# Altium schematic symbol library Schlib_jp.SchLib: 203 symbols (part 5 of 6)
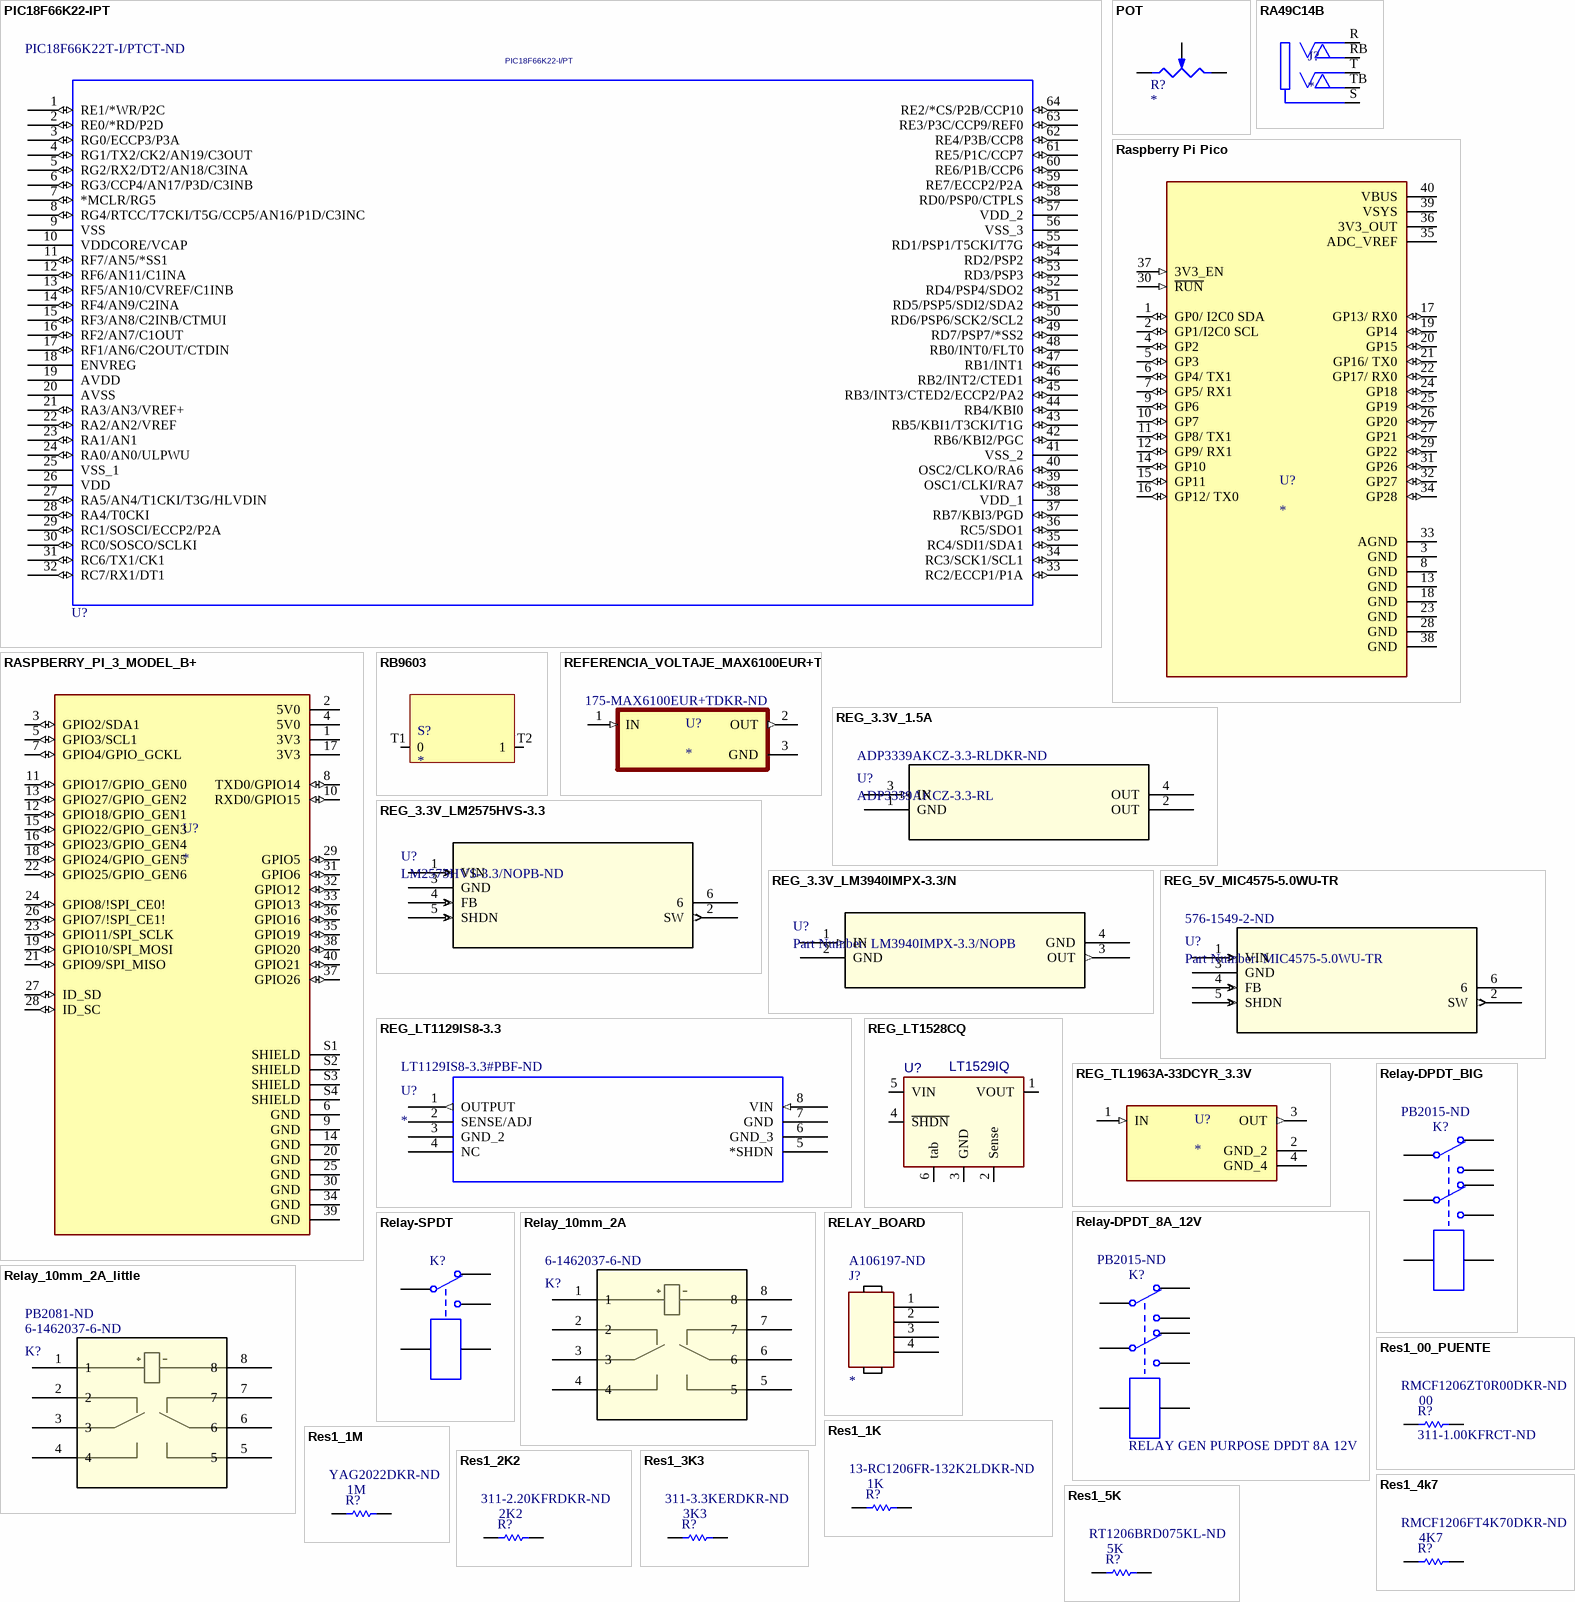
[diagram p12: symbols PIC18F66K22-IPT to Res1_5K]

## REG_3.3V_1.5A
designator U?, comment ADP3339AKCZ-3.3-RL  Supplier Part Number 1: ADP3339AKCZ-3.3-RLDKR-ND
IC REG LINEAR 3.3V 1.5A SOT223-3; Manufacturer_Part_Number: LM3940IMPX-3.3/NOPB; Vendor: Texas Instruments; Built_By: EMA_UL_Team; Copyright: Copyright (C) 2018 Accelerated Designs. All rights reserved; RefDes: RefDes; Type: DEV; Value: Value; Supplier 1: Digi-Key
footprint MP04A-M
pins: 1 GND, 2 OUT (power), 3 IN (in), 4 OUT (power)

## REG_3.3V_LM2575HVS-3.3
designator U?, comment LM2575HVS-3.3/NOPB-ND
Buck Switching Regulator IC Positive Fixed 3.3V 1 Output 1A TO-263-6, D²Pak (5 Leads + Tab), TO-263BA; Manufacturer_Part_Number: MIC4575-5.0WU-TR; Manufacturer: Microchip Micrel; Vendor: Microchip; Built_By: EMA_Jessica; Output Voltage: 5V; Number of Outputs: 1; Output Current: 1.7A; Efficiency: 77%; Min Input Voltage: 4V; Max Input Voltage: 24V; Switching Frequency: 200kHz; Synchronous Rectifier: No; Topology: Buck-Boost; Copyright: Copyright (C) 2018 Accelerated Designs. All rights reserved; RefDes: RefDes; Type: DEV; Value: Value; Manufacturer Part Number: MIC4575-5.0WU-TR; Mount: Surface Mount; Case/Package: TO-263-5; Min Operating Temperature: -40°C; Max Operating Temperature: 85°C; Max Output Current: 1A; Packaging: Tape and Reel; Package Quantity: 750; Min Output Voltage: 5V; Output Type: Fixed; Output Configuration: Positive; Lead Free: Lead Free; ComponentLink1URL: http://www.micrel.com/_PDF/mic4575.pdf?src-supplier=Future+Electronics; ComponentLink1Description: http://www.micrel.com/_PDF/mic4575.pdf?src-supplier=Future+Electronics; ComponentLink2URL: http://www.micrel.com/_PDF/mic4575.pdf?src-supplier=Digi-Key; ComponentLink2Description: http://www.micrel.com/_PDF/mic4575.pdf?src-supplier=Digi-Key; Digi_Key_Part_Number: LM2575HVS-3.3/NOPB-ND; Link: https://www.digikey.com/en/products/detail/texas-instruments/LM2575HVS-3-3-NOPB/363637; ComponentLink3Description: IC REG MULTI CONFG 3.3V D2PAK-5; ComponentLink3URL: https://www.digikey.com/es/products/detail/onsemi/LM2576D2TR4-3-3G/2120632
footprint TO-263-5-M
pins: 1 VIN (in), 2 SW (out), 3 GND (power), 4 FB (in), 5 SHDN (in), 6

## REG_3.3V_LM3940IMPX-3.3/N
designator U?, comment Part Number: LM3940IMPX-3.3/NOPB
IC REG LINEAR 3.3V 1A SOT223-4; Vendor: Texas Instruments; Built_By: EMA_UL_Team; Manufacturer_Part_Number: LM3940IMPX-3.3/NOPB; Copyright: Copyright (C) 2018 Accelerated Designs. All rights reserved; RefDes: RefDes; Type: DEV; Value: Value; ComponentLink1Description: LM3940; ComponentLink1URL: https://www.digikey.com/es/products/detail/texas-instruments/LM3940IMPX-3-3/3697375
footprint MP04A
footprint MP04A-M
pins: 1 IN (in), 2 GND, 3 OUT (out), 4 GND

## REG_5V_MIC4575-5.0WU-TR
designator U?, comment Part Number: MIC4575-5.0WU-TR  Supplier Part Number 1: 576-1549-2-ND
Regulador 5V; Manufacturer: Microchip Micrel; Vendor: Microchip; Built_By: EMA_Jessica; Max Output Current: 1A; Number of Outputs: 1; Output Current: 1.7A; Efficiency: 77%; Min Input Voltage: 4V; Max Input Voltage: 24V; Switching Frequency: 200kHz; Synchronous Rectifier: No; Topology: Buck-Boost; Output Type: Fixed; Output Configuration: Positive; Manufacturer_Part_Number: MIC4575-5.0WU-TR; Copyright: Copyright (C) 2018 Accelerated Designs. All rights reserved; RefDes: RefDes; Type: DEV; Value: Value; Supplier 1: Digi-Key; Manufacturer Part Number: MIC4575-5.0WU-TR; Stock 1: 0; Pricing 1: 750=2.28, 5250=1.425 (USD); Mount: Surface Mount; Case/Package: TO-263-5; Min Operating Temperature: -40°C; Max Operating Temperature: 85°C; Output Voltage: 5V; Packaging: Tape and Reel; Package Quantity: 750; Min Output Voltage: 5V; Lead Free: Lead Free; ComponentLink1URL: http://www.micrel.com/_PDF/mic4575.pdf?src-supplier=Future+Electronics; ComponentLink1Description: http://www.micrel.com/_PDF/mic4575.pdf?src-supplier=Future+Electronics; ComponentLink2URL: http://www.micrel.com/_PDF/mic4575.pdf?src-supplier=Digi-Key; ComponentLink2Description: http://www.micrel.com/_PDF/mic4575.pdf?src-supplier=Digi-Key
footprint TO-263-5-M
pins: 1 VIN (in), 2 SW (out), 3 GND (power), 4 FB (in), 5 SHDN (in), 6

## REG_LT1129IS8-3.3
designator U?  Supplier Part Number 1: LT1129IS8-3.3#PBF-ND
PMIC - reguladores de voltaje lineal Positivo Fija 1 Salida 700mA 8-SO; Value: LT1129IS8-3.3; MF: Linear Technology/Analog; MP: LT1129IS8-3.3#PBF; Price: None; Package: SOIC-8 Linear Technology; Purchase-URL: https://pricing.snapeda.com/search/part/LT1129IS8-3.3#PBF/?ref=eda; SnapEDA_Link: https://www.snapeda.com/parts/LT1129IS8-3.3%23PBF/Analog%20Devices/view-part/1215396/?ref=snap; Availability: Good; Check_prices: https://www.snapeda.com/parts/LT1129IS8-3.3%23PBF/Analog%20Devices/view-part/1215396/?ref=eda; Supplier 1: Digi-Key; Link: https://www.digikey.com/es/products/detail/LT1129IS8-3.3%2523PBF/LT1129IS8-3.3%2523PBF-ND/890558?utm_campaign=buynow&utm_medium=aggregator&curr=usd&utm_source=octopart; Digi_Key_Part_Number: LT1129IS8-3.3#PBF-ND; ComponentLink1Description: IC REG LINEAR 3.3V 700MA 8SOIC; ComponentLink1URL: https://www.digikey.com/es/products/detail/analog-devices-inc/lt1129is8-3-3-pbf/890558
footprint SO-8_S
pins: 1 OUTPUT (out), 2 SENSE/ADJ, 3 GND_2 (power), 4 NC, 5 *SHDN, 6 GND_3 (power), 7 GND (power), 8 VIN (in)

## REG_LT1528CQ
designator U?, comment LT1529IQ
PMIC - reguladores de voltaje lineal Positivo Ajuste 1 Salida 3A 5-DDPAK; Digi_Key_Part_Number: LT1529IQ#PBF-ND; Value: LT1529IQ; Supplier 1: Digi-Key; Supplier Part Number 1: LT1529IQ#PBF-ND; Link: https://www.digikey.com/es/products/detail/LT1529IQ%2523PBF/LT1529IQ%2523PBF-ND/963664?utm_campaign=buynow&utm_medium=aggregator&curr=usd&utm_source=octopart; ComponentLink1Description: IC REG LINEAR 3.3V 3A 5DDPAK; ComponentLink1URL: https://www.digikey.com/es/products/detail/analog-devices-inc/lt1529iq-3-3-pbf/963661
footprint DD PAK
pins: 1 VOUT, 2 Sense, 3 GND, 4 ~{SHDN}, 5 VIN, 6 tab

## REG_TL1963A-33DCYR_3.3V
designator U?
Linear Voltage Regulator IC Positive Fixed 1 Output 1.5A SOT-223-4; MP: TL1963A-33DCYR; Value: *; Availability: Unavailable; Package: None; Price: None; ComponentLink1Description: IC REG LINEAR 3.3V 1.5A SOT223-4; ComponentLink1URL: https://www.digikey.com/en/products/detail/texas-instruments/TL1963A-33DCYR/2118656?s=N4IgTCBcDaICoBkCMBOAbAZgIIFoMYBEBhATQCUQBdAXyA; Digi-Key_Part_Number: 296-24897-1-ND; Link: https://www.digikey.com/en/products/detail/texas-instruments/TL1963A-33DCYR/2118656?s=N4IgTCBcDaICoBkCMBOAbAZgIIFoMYBEBhATQCUQBdAXyA
footprint VREG_TL1963A-33DCYR
pins: 1 IN (in), 2 GND_2 (power), 3 OUT (out), 4 GND_4 (power)

## Relay-DPDT_8A_12V
designator K?, comment RELAY GEN PURPOSE DPDT 8A 12V  Supplier Part Number 1: PB2015-ND
Relé Propósito general DPDT (2 Forma C) 12 VCC Espiral Orificio pasante Relé Propósito general DPDT (2 Forma C) Orificio pasante; Manufacturer: TE Connectivity; Manufacturer Part Number: 7-1415538-8; Voltage Rating (AC): 400V; Coil Resistance: 360R; Coil Power: 400mW; Coil Current: 33.3mA; Operate Time: 8ms; Dropout Voltage: 1.2V; Contact Voltage Rating (AC): 250V; Approvals: UL,CSA,VDE; Published: 24-Mar-1999; LatestRevisionDate: 17-Jul-2002; LatestRevisionNote: Re-released for DXP Platform.; PackageReference: DIP-P8; Publisher: Altium Limited; PackageDescription: Relay; 8 Leads; Supplier 1: Digi-Key; Stock 1: 10430; Pricing 1: 1=4.01, 10=3.758, 25=3.34, 50=3.173, 100=3.006, 250=2.672, 500=2.505, 1000=2.338 (USD); Mount: PCB,Through Hole; Case/Package: DIP; Number of Pins: 8; Weight: 13g; Contact Material: Silver; Min Operating Temperature: -40°C; Max Operating Temperature: 85°C; Max Voltage Rating (AC): 400V; Contact Current Rating: 8A; Packaging: Carton; Termination: PCB; Throw Configuration: DPDT; Coil Voltage (DC): 12V; Current Rating: 8A; Voltage Rating (DC): 12V; Length: 29mm; Height: 15.7mm; Depth: 12.7mm; Width: 12.7mm; Radiation Hardening: No; ELV: Compliant; ComponentLink1Description: RELAY GEN PURPOSE DPDT 8A 12V; ComponentLink1URL: https://www.digikey.com/es/products/detail/7-1415538-8/PB2015-ND/4959322?utm_campaign=buynow&utm_medium=aggregator&curr=usd&utm_source=octopart; Digi-Key_Part_Number: PB2015-ND; Link: https://www.digikey.com/es/products/detail/7-1415538-8/PB2015-ND/4959322?utm_campaign=buynow&utm_medium=aggregator&curr=usd&utm_source=octopart
footprint RELAY_G5V-2
pins: 11 CC, 12 NC, 14 NA, 21 CC, 22 NC, 24 NA, A1 "A1", A2 "A2"

## Relay-DPDT_BIG
designator K?  Supplier Part Number 1: PB2015-ND
Relé Propósito general DPDT (2 Forma C) 12 VCC Espiral Orificio pasante; Manufacturer: TE Connectivity; Manufacturer Part Number: 7-1415538-8; Voltage Rating (AC): 400V; Contact Current Rating: 8A; Coil Resistance: 360R; Coil Power: 400mW; Coil Current: 33.3mA; Operate Time: 8ms; Dropout Voltage: 1.2V; Coil Voltage (DC): 12V; Contact Voltage Rating (AC): 250V; Approvals: UL,CSA,VDE; Published: 24-Mar-1999; LatestRevisionDate: 17-Jul-2002; LatestRevisionNote: Re-released for DXP Platform.; PackageReference: DIP-P8; Publisher: Altium Limited; PackageDescription: Relay; 8 Leads; Supplier 1: Digi-Key; Stock 1: 10430; Pricing 1: 1=4.01, 10=3.758, 25=3.34, 50=3.173, 100=3.006, 250=2.672, 500=2.505, 1000=2.338 (USD); Mount: PCB,Through Hole; Case/Package: DIP; Number of Pins: 8; Weight: 13g; Contact Material: Silver; Min Operating Temperature: -40°C; Max Operating Temperature: 85°C; Max Voltage Rating (AC): 400V; Packaging: Carton; Termination: PCB; Throw Configuration: DPDT; Current Rating: 8A; Voltage Rating (DC): 12V; Length: 29mm; Height: 15.7mm; Depth: 12.7mm; Width: 12.7mm; Radiation Hardening: No; ELV: Compliant; ComponentLink1URL: http://www.te.com/commerce/DocumentDelivery/DDEController?Action=srchrtrv&DocNm=RT2&DocType=Data+Sheet&DocLang=English&src-supplier=Avnet; ComponentLink1Description: http://www.te.com/commerce/DocumentDelivery/DDEController?Action=srchrtrv&DocNm=RT2&DocType=Data+Sheet&DocLang=English&src-supplier=Avnet
footprint RELAY8_12p7x29
pins: 11, 12, 14, 22, 22, 24, A1 "A1", A2 "A2"

## Relay-SPDT
designator K?
Single-Pole Dual-Throw Relay; Published: 24-Mar-1999; LatestRevisionDate: 17-Jul-2002; LatestRevisionNote: Re-released for DXP Platform.; PackageReference: MODULE5B; Publisher: Altium Limited
footprint RELAY5
pins: 1 B, 2 B, 3 COM, 4 NA, 5 NC

## Relay_10mm_2A
designator K?, comment Supplier Part Number 1: 6-1462037-6-ND  (hidden comment: 6-1462037-6)
RELAY TELECOM DPDT 2A 12VDC; Mfr_Name: TE Connectivity; Copyright: Copyright (C) 2022 Ultra Librarian. All rights reserved.; Manufacturer_Part_Number: 6-1462037-6; Digi-Key_Part_Number_1: PB2085-ND; RefDes: RefDes; Type: DEV; Supplier 1: Digi-Key; ComponentLink1Description: Relay 2A DPDT 8pines; ComponentLink1URL: https://www.te.com/commerce/DocumentDelivery/DDEController?Action=srchrtrv&DocNm=1-1773734-7_IM_Relay_I_Type&DocType=DS&DocLang=English
footprint RELAY8_THTSTD_TEC
pins: 1, 2, 3, 4, 5, 6, 7, 8

## Relay_10mm_2A_little
designator K?, comment Supplier Part Number 1: 6-1462037-6-ND  Supplier Part Number 2: PB2081-ND  (hidden comment: 6-1462037-6)
RELAY TELECOM DPDT 2A 12VDC; Mfr_Name: TE Connectivity; Copyright: Copyright (C) 2022 Ultra Librarian. All rights reserved.; Manufacturer_Part_Number: 6-1462037-6; Digi-Key_Part_Number: PB2085-ND; RefDes: RefDes; Type: DEV; Supplier 1: Digi-Key; ComponentLink1Description: Relay 2A DPDT 8pines; ComponentLink1URL: https://www.te.com/commerce/DocumentDelivery/DDEController?Action=srchrtrv&DocNm=1-1773734-7_IM_Relay_I_Type&DocType=DS&DocLang=English; Supplier 2: Digi-Key; Link: https://www.digikey.com/es/products/detail/te-connectivity-potter-brumfield-relays/6-1462037-6/2398972?s=N4IgTCBcDaIAoCEwAYAcBWAtAOQCIgF0BfIA
footprint RELAY8_THTSTD_TEC -little
pins: 1, 2, 3, 4, 5, 6, 7, 8

## RELAY_BOARD
designator J?  Supplier Part Number 1: A106197-ND
Manufacturer: TE Connectivity; Manufacturer Part Number: 171825-4; Current Rating: 3.5A; Voltage Rating: 350V; Number of Positions: 4; Max Voltage Rating (AC): 250V; Connector Type: Header,Plug,Pin; PCB Mounting Orientation: Vertical; Polarized: No; Panel Mount Retention: No (Without); PCB Mount Retention: Without; Wire Gauge (Max): 22AWG; Wire Gauge (Min): 28AWG; Pitch: 2.5mm; Approvals: UL; Supplier 1: Digi-Key; Stock 1: 18682; Pricing 1: 1=0.26, 10=0.246, 100=0.1707, 500=0.1444, 1000=0.11815, 5000=0.10502, 10000=0.09518 (USD); Mount: Through Hole; Contact Plating: Copper,Tin; Color: Natural,Beige; Contact Material: Brass; Housing Color: Natural; Housing Material: Nylon; Insulation Material: Polyamide; Min Operating Temperature: -20°C; Max Operating Temperature: 95°C; Number of Rows: 1; Package Quantity: 1000; Packaging: Bag; Contact Gender: Male; Max Voltage Rating (DC): 350V; Termination: Solder; Number of Contacts: 4; Orientation: Straight; Length: 10mm; Height: 10mm; Lead Pitch: 2.49mm; Width: 14mm; Contact Mating Length: 0.295inch; Depth: 4.9mm; Radiation Hardening: No; REACH SVHC: No SVHC; Flammability Rating: UL94 V-0; ComponentLink1URL: http://www.jameco.com/Jameco/Products/ProdDS/1930162.pdf?src-supplier=Jameco; ComponentLink1Description: http://www.jameco.com/Jameco/Products/ProdDS/1930162.pdf?src-supplier=Jameco; ComponentLink2URL: https://www.alliedelec.com/m/d/9c168632fc1c14b3b35331811121f1a2.pdf?src-supplier=Allied+Electronics; ComponentLink2Description: https://www.alliedelec.com/m/d/9c168632fc1c14b3b35331811121f1a2.pdf?src-supplier=Allied+Electronics; ComponentLink3URL: http://www.farnell.com/datasheets/1658350.pdf?src-supplier=Farnell; ComponentLink3Description: http://www.farnell.com/datasheets/1658350.pdf?src-supplier=Farnell; ComponentLink4URL: https://www.verical.com/server-webapp/html/getDatasheet?partID=44161&src-supplier=Verical; ComponentLink4Description: https://www.verical.com/server-webapp/html/getDatasheet?partID=44161&src-supplier=Verical; ComponentLink5URL: http://www.onlinecomponents.com/productFiles/mf-AMP/eng_cat_1242174_0698_8_.pdf?src-supplier=Onlinecomponents.com; ComponentLink5Description: http://www.onlinecomponents.com/productFiles/mf-AMP/eng_cat_1242174_0698_8_.pdf?src-supplier=Onlinecomponents.com
footprint RELE_MODULO_2 (Connector; Header; 6 Position)
pins: 1, 2, 3, 4

## Res1_00_PUENTE
designator R?, comment 311-1.00KFRCT-ND  value 00  Supplier Part Number 1: RMCF1206ZT0R00DKR-ND
RES 0 OH0 Ohms Puente Resistencia en microprocesador 1206 (3216 métrico) AEC-Q200 automotriz Película gruesaM JUMPER 1/4W 1206; Manufacturer: Panasonic; Manufacturer Part Number: ERJ-8ENF5232V; Digi_Key_Part_Number: RMCF1206ZT0R00CT-ND; Resistance: 52.3kR; Tolerance: 1%; Power Rating: 250mW; Voltage Rating: 200V; Temperature Coefficient: 100ppm/°C; Published: 8-Jun-2000; LatestRevisionDate: 17-Jul-2002; LatestRevisionNote: Re-released for DXP Platform.; PackageReference: AXIAL-0.3; Publisher: Altium Limited; PackageDescription: Axial Device, Thru-Hole; 2 Leads; 0.3 in Pin Spacing; Mount: Surface Mount; Case/Package: 1206; Case Code (Imperial): 1206; Case Code (Metric): 3216; Contact Plating: Tin; Min Operating Temperature: -55°C; Max Operating Temperature: 155°C; Packaging: Tape and Reel; Package Quantity: 1; Composition: Thick Film; Number of Terminations: 2; Max Power Dissipation: 250mW; Voltage Rating (DC): 200V; Features: Automotive AEC-Q200; Military Standard: Not; Termination: SMD/SMT; Length: 3.2mm; Height: 0.028inch; Width: 1.6mm; Depth: 1.6mm; REACH SVHC: Yes; ComponentLink1URL: http://www.farnell.com/datasheets/1678782.pdf?src-supplier=Farnell; ComponentLink1Description: http://www.farnell.com/datasheets/1678782.pdf?src-supplier=Farnell; ComponentLink2URL: http://industrial.panasonic.com/www-data/pdf/AOA0000/AOA0000CE2.pdf?src-supplier=Mouser; ComponentLink2Description: http://industrial.panasonic.com/www-data/pdf/AOA0000/AOA0000CE2.pdf?src-supplier=Mouser; Supplier 1: Digi-Key; Link: https://www.digikey.com/es/products/detail/RMCF1206ZT0R00/RMCF1206ZT0R00DKR-ND/1943741?utm_campaign=buynow&utm_medium=aggregator&curr=usd&utm_source=octopart; ComponentLink3Description: RES 0 OHM JUMPER 1/4W 1206; ComponentLink3URL: https://www.digikey.com/es/products/detail/RMCF1206ZT0R00/RMCF1206ZT0R00DKR-ND/1943741?utm_campaign=buynow&utm_medium=aggregator&curr=usd&utm_source=octopart
footprint RES1206
pins: 1, 2

## Res1_1K
designator R?, comment value 1K  Supplier Part Number 1: 13-RC1206FR-132K2LDKR-ND  (hidden comment: 311-1.00KFRCT-ND)
RES 1K OH1 kOhms ±1% 0.25W, 1/4W Resistencia en microprocesador 1206 (3216 métrico) Resistente a la humedad Película gruesaM 1% 1/4W 1206; Manufacturer: Panasonic; Manufacturer Part Number: ERJ-8ENF5232V; Resistance: 52.3kR; Power Rating: 250mW; Voltage Rating: 200V; Temperature Coefficient: 100ppm/°C; Published: 8-Jun-2000; LatestRevisionDate: 17-Jul-2002; LatestRevisionNote: Re-released for DXP Platform.; PackageReference: AXIAL-0.3; Publisher: Altium Limited; PackageDescription: Axial Device, Thru-Hole; 2 Leads; 0.3 in Pin Spacing; Mount: Surface Mount; Case/Package: 1206; Case Code (Imperial): 1206; Case Code (Metric): 3216; Contact Plating: Tin; Min Operating Temperature: -55°C; Max Operating Temperature: 155°C; Tolerance: 1%; Packaging: Tape and Reel; Package Quantity: 1; Composition: Thick Film; Number of Terminations: 2; Max Power Dissipation: 250mW; Voltage Rating (DC): 200V; Features: Automotive AEC-Q200; Military Standard: Not; Termination: SMD/SMT; Length: 3.2mm; Height: 0.028inch; Width: 1.6mm; Depth: 1.6mm; REACH SVHC: Yes; ComponentLink1URL: http://www.farnell.com/datasheets/1678782.pdf?src-supplier=Farnell; ComponentLink1Description: http://www.farnell.com/datasheets/1678782.pdf?src-supplier=Farnell; ComponentLink2URL: http://industrial.panasonic.com/www-data/pdf/AOA0000/AOA0000CE2.pdf?src-supplier=Mouser; ComponentLink2Description: http://industrial.panasonic.com/www-data/pdf/AOA0000/AOA0000CE2.pdf?src-supplier=Mouser; Supplier 1: Digi-Key; Link: https://www.digikey.com/es/products/detail/yageo/RC1206FR-071KL/728387?s=N4IgTCBcDaIMwEYEFoEDoAMGDSAxASgMIAqyAcgCIgC6AvkA; Digi_Key_Part_Number: 311-1.00KFRCT-ND; ComponentLink3Description: RES 1K OHM 1% 1/4W 1206; ComponentLink3URL: https://www.digikey.com/es/products/detail/yageo/RC1206FR-071KL/728387?s=N4IgTCBcDaIMwEYEFoEDoAMGDSAxASgMIAqyAcgCIgC6AvkA
footprint RES1206
pins: 1, 2

## Res1_1M
designator R?, comment value 1M  Supplier Part Number 1: YAG2022DKR-ND  (hidden comment: 311-1.00KFRCT-ND)
RES SMD 1M OHM 0.1% 1/4W 1206; Manufacturer: Panasonic; Manufacturer Part Number: ERJ-8ENF5232V; Digi_Key_Part_Number: YAG2022CT-ND; Resistance: 52.3kR; Tolerance: 1%; Power Rating: 250mW; Voltage Rating: 200V; Temperature Coefficient: 100ppm/°C; Published: 8-Jun-2000; LatestRevisionDate: 17-Jul-2002; LatestRevisionNote: Re-released for DXP Platform.; PackageReference: AXIAL-0.3; Publisher: Altium Limited; PackageDescription: Axial Device, Thru-Hole; 2 Leads; 0.3 in Pin Spacing; Mount: Surface Mount; Case/Package: 1206; Case Code (Imperial): 1206; Case Code (Metric): 3216; Contact Plating: Tin; Min Operating Temperature: -55°C; Max Operating Temperature: 155°C; Packaging: Tape and Reel; Package Quantity: 1; Composition: Thick Film; Number of Terminations: 2; Max Power Dissipation: 250mW; Voltage Rating (DC): 200V; Features: Automotive AEC-Q200; Military Standard: Not; Termination: SMD/SMT; Length: 3.2mm; Height: 0.028inch; Width: 1.6mm; Depth: 1.6mm; REACH SVHC: Yes; ComponentLink1URL: http://www.farnell.com/datasheets/1678782.pdf?src-supplier=Farnell; ComponentLink1Description: http://www.farnell.com/datasheets/1678782.pdf?src-supplier=Farnell; ComponentLink2URL: http://industrial.panasonic.com/www-data/pdf/AOA0000/AOA0000CE2.pdf?src-supplier=Mouser; ComponentLink2Description: http://industrial.panasonic.com/www-data/pdf/AOA0000/AOA0000CE2.pdf?src-supplier=Mouser; Supplier 1: Digi-Key; Link: https://www.digikey.com/es/products/detail/RT1206BRD071ML/YAG2022DKR-ND/5140399?utm_campaign=buynow&utm_medium=aggregator&curr=usd&utm_source=octopart
footprint RES1206
pins: 1, 2

## Res1_2K2
designator R?, comment value 2K2  Supplier Part Number 1: 311-2.20KFRDKR-ND  (hidden comment: 311-2.20KFRCT-ND)
RES 2.2K OHM 1% 1/4W 1206; Manufacturer: Panasonic; Manufacturer Part Number: ERJ-8ENF5232V; Resistance: 52.3kR; Power Rating: 250mW; Voltage Rating: 200V; Temperature Coefficient: 100ppm/°C; Published: 8-Jun-2000; LatestRevisionDate: 17-Jul-2002; LatestRevisionNote: Re-released for DXP Platform.; PackageReference: AXIAL-0.3; Publisher: Altium Limited; PackageDescription: Axial Device, Thru-Hole; 2 Leads; 0.3 in Pin Spacing; Mount: Surface Mount; Case/Package: 1206; Case Code (Imperial): 1206; Case Code (Metric): 3216; Contact Plating: Tin; Min Operating Temperature: -55°C; Max Operating Temperature: 155°C; Tolerance: 1%; Packaging: Tape and Reel; Package Quantity: 1; Composition: Thick Film; Number of Terminations: 2; Max Power Dissipation: 250mW; Voltage Rating (DC): 200V; Features: Automotive AEC-Q200; Military Standard: Not; Termination: SMD/SMT; Length: 3.2mm; Height: 0.028inch; Width: 1.6mm; Depth: 1.6mm; REACH SVHC: Yes; ComponentLink1URL: http://www.farnell.com/datasheets/1678782.pdf?src-supplier=Farnell; ComponentLink1Description: http://www.farnell.com/datasheets/1678782.pdf?src-supplier=Farnell; ComponentLink2URL: http://industrial.panasonic.com/www-data/pdf/AOA0000/AOA0000CE2.pdf?src-supplier=Mouser; ComponentLink2Description: http://industrial.panasonic.com/www-data/pdf/AOA0000/AOA0000CE2.pdf?src-supplier=Mouser; Supplier 1: Digi-Key; Link: https://www.digikey.com/es/products/detail/RC1206FR-072K2L/311-2.20KFRDKR-ND/734518?utm_campaign=buynow&utm_medium=aggregator&curr=usd&utm_source=octopart; Digi_Key_Part_Number: 311-2.20KFRCT-ND; ComponentLink3Description: RES 2.2K OHM 1% 1/4W 1206; ComponentLink3URL: https://www.digikey.com/es/products/detail/yageo/RC1206FR-072K2L/728624?s=N4IgTCBcDaIMwEYEFowDowAYDSAxASgMIAqyAcgCIgC6AvkA
footprint RES1206
pins: 1, 2

## Res1_3K3
designator R?, comment value 3K3  Supplier Part Number 1: 311-3.3KERDKR-ND  (hidden comment: 311-1.00KFRCT-ND)
3.3 kOhms ±5% 0.25W, 1/4W Chip Resistor 1206 (3216 Metric) Moisture Resistant Thick Film; Manufacturer: Panasonic; Manufacturer Part Number: ERJ-8ENF5232V; Digi_Key_Part_Number: 311-3.3KERCT-ND; Resistance: 52.3kR; Tolerance: 1%; Power Rating: 250mW; Voltage Rating: 200V; Temperature Coefficient: 100ppm/°C; Published: 8-Jun-2000; LatestRevisionDate: 17-Jul-2002; LatestRevisionNote: Re-released for DXP Platform.; PackageReference: AXIAL-0.3; Publisher: Altium Limited; PackageDescription: Axial Device, Thru-Hole; 2 Leads; 0.3 in Pin Spacing; Mount: Surface Mount; Case/Package: 1206; Case Code (Imperial): 1206; Case Code (Metric): 3216; Contact Plating: Tin; Min Operating Temperature: -55°C; Max Operating Temperature: 155°C; Packaging: Tape and Reel; Package Quantity: 1; Composition: Thick Film; Number of Terminations: 2; Max Power Dissipation: 250mW; Voltage Rating (DC): 200V; Features: Automotive AEC-Q200; Military Standard: Not; Termination: SMD/SMT; Length: 3.2mm; Height: 0.028inch; Width: 1.6mm; Depth: 1.6mm; REACH SVHC: Yes; ComponentLink1URL: http://www.farnell.com/datasheets/1678782.pdf?src-supplier=Farnell; ComponentLink1Description: http://www.farnell.com/datasheets/1678782.pdf?src-supplier=Farnell; ComponentLink2URL: http://industrial.panasonic.com/www-data/pdf/AOA0000/AOA0000CE2.pdf?src-supplier=Mouser; ComponentLink2Description: http://industrial.panasonic.com/www-data/pdf/AOA0000/AOA0000CE2.pdf?src-supplier=Mouser; Supplier 1: Digi-Key; Link: https://www.digikey.com/es/products/detail/RC1206JR-073K3L/311-3.3KERDKR-ND/735161?utm_campaign=buynow&utm_medium=aggregator&curr=usd&utm_source=octopart; ComponentLink3Description: RES 3.3K OHM 5% 1/4W 1206; ComponentLink3URL: https://www.digikey.com/es/products/detail/RC1206JR-073K3L/311-3.3KERDKR-ND/735161?utm_campaign=buynow&utm_medium=aggregator&curr=usd&utm_source=octopart
footprint RES1206
pins: 1, 2

## Res1_4k7
designator R?, comment value 4K7  Supplier Part Number 1: RMCF1206FT4K70DKR-ND  (hidden comment: RMCF1206FT4K70CT-ND)
RES 4.7K OHM 1% 1/4W 1206; Manufacturer: Panasonic; Manufacturer Part Number: ERJ-8ENF5232V; Resistance: 52.3kR; Power Rating: 250mW; Voltage Rating: 200V; Temperature Coefficient: 100ppm/°C; Published: 8-Jun-2000; LatestRevisionDate: 17-Jul-2002; LatestRevisionNote: Re-released for DXP Platform.; PackageReference: AXIAL-0.3; Publisher: Altium Limited; PackageDescription: Axial Device, Thru-Hole; 2 Leads; 0.3 in Pin Spacing; Mount: Surface Mount; Case/Package: 1206; Case Code (Imperial): 1206; Case Code (Metric): 3216; Contact Plating: Tin; Min Operating Temperature: -55°C; Max Operating Temperature: 155°C; Tolerance: 1%; Packaging: Tape and Reel; Package Quantity: 1; Composition: Thick Film; Number of Terminations: 2; Max Power Dissipation: 250mW; Voltage Rating (DC): 200V; Features: Automotive AEC-Q200; Military Standard: Not; Termination: SMD/SMT; Length: 3.2mm; Height: 0.028inch; Width: 1.6mm; Depth: 1.6mm; REACH SVHC: Yes; ComponentLink1URL: http://www.farnell.com/datasheets/1678782.pdf?src-supplier=Farnell; ComponentLink1Description: http://www.farnell.com/datasheets/1678782.pdf?src-supplier=Farnell; ComponentLink2URL: http://industrial.panasonic.com/www-data/pdf/AOA0000/AOA0000CE2.pdf?src-supplier=Mouser; ComponentLink2Description: http://industrial.panasonic.com/www-data/pdf/AOA0000/AOA0000CE2.pdf?src-supplier=Mouser; Supplier 1: Digi-Key; Link: https://www.digikey.com/es/products/detail/RMCF1206FT4K70/RMCF1206FT4K70DKR-ND/1943603?utm_campaign=buynow&utm_medium=aggregator&curr=usd&utm_source=octopart; Digi_Key_Part_Number: RMCF1206FT4K70CT-ND; ComponentLink3Description: RES 4.7K OHM 1% 1/4W 1206; ComponentLink3URL: https://www.digikey.com/es/products/detail/stackpole-electronics-inc/RMCF1206FT4K70/1754008?s=N4IgTCBcDaIEoFkDCAxAjGADANhQFQBYBpAdkyTwFoA5AERAF0BfIA
footprint RES1206
pins: 1, 2

## Res1_5K
designator R?, comment value 5K  Supplier Part Number 1: RT1206BRD075KL-ND  (hidden comment: YAG5090CT-ND)
5 kOhms ±0.1% 0.25W, 1/4W Resistencia en microprocesador 1206 (3216 métrico) Película delgada; Manufacturer: Panasonic; Manufacturer Part Number: ERJ-8ENF5232V; Resistance: 52.3kR; Tolerance: 1%; Power Rating: 250mW; Voltage Rating: 200V; Temperature Coefficient: 100ppm/°C; Published: 8-Jun-2000; LatestRevisionDate: 17-Jul-2002; LatestRevisionNote: Re-released for DXP Platform.; PackageReference: AXIAL-0.3; Publisher: Altium Limited; PackageDescription: Axial Device, Thru-Hole; 2 Leads; 0.3 in Pin Spacing; Mount: Surface Mount; Case/Package: 1206; Case Code (Imperial): 1206; Case Code (Metric): 3216; Contact Plating: Tin; Min Operating Temperature: -55°C; Max Operating Temperature: 155°C; Packaging: Tape and Reel; Package Quantity: 1; Composition: Thick Film; Number of Terminations: 2; Max Power Dissipation: 250mW; Voltage Rating (DC): 200V; Features: Automotive AEC-Q200; Military Standard: Not; Termination: SMD/SMT; Length: 3.2mm; Height: 0.028inch; Width: 1.6mm; Depth: 1.6mm; REACH SVHC: Yes; ComponentLink1URL: http://www.farnell.com/datasheets/1678782.pdf?src-supplier=Farnell; ComponentLink1Description: http://www.farnell.com/datasheets/1678782.pdf?src-supplier=Farnell; ComponentLink2URL: http://industrial.panasonic.com/www-data/pdf/AOA0000/AOA0000CE2.pdf?src-supplier=Mouser; ComponentLink2Description: http://industrial.panasonic.com/www-data/pdf/AOA0000/AOA0000CE2.pdf?src-supplier=Mouser; Supplier 1: Digi-Key; Digi_Key_Part_Number: YAG5090CT-ND; Link: https://www.digikey.com/es/products/detail/yageo/RT1206BRD075KL/5936961?s=N4IgTCBcDaIJoEEDiBWADATjQYQCoFoA5AERAF0BfIA; ComponentLink3Description: RES SMD 5K OHM 0.1% 1/4W 1206; ComponentLink3URL: https://www.digikey.com/es/products/detail/yageo/RT1206BRD075KL/5936961?s=N4IgTCBcDaIJoEEDiBWADATjQYQCoFoA5AERAF0BfIA
footprint RES1206
pins: 1, 2

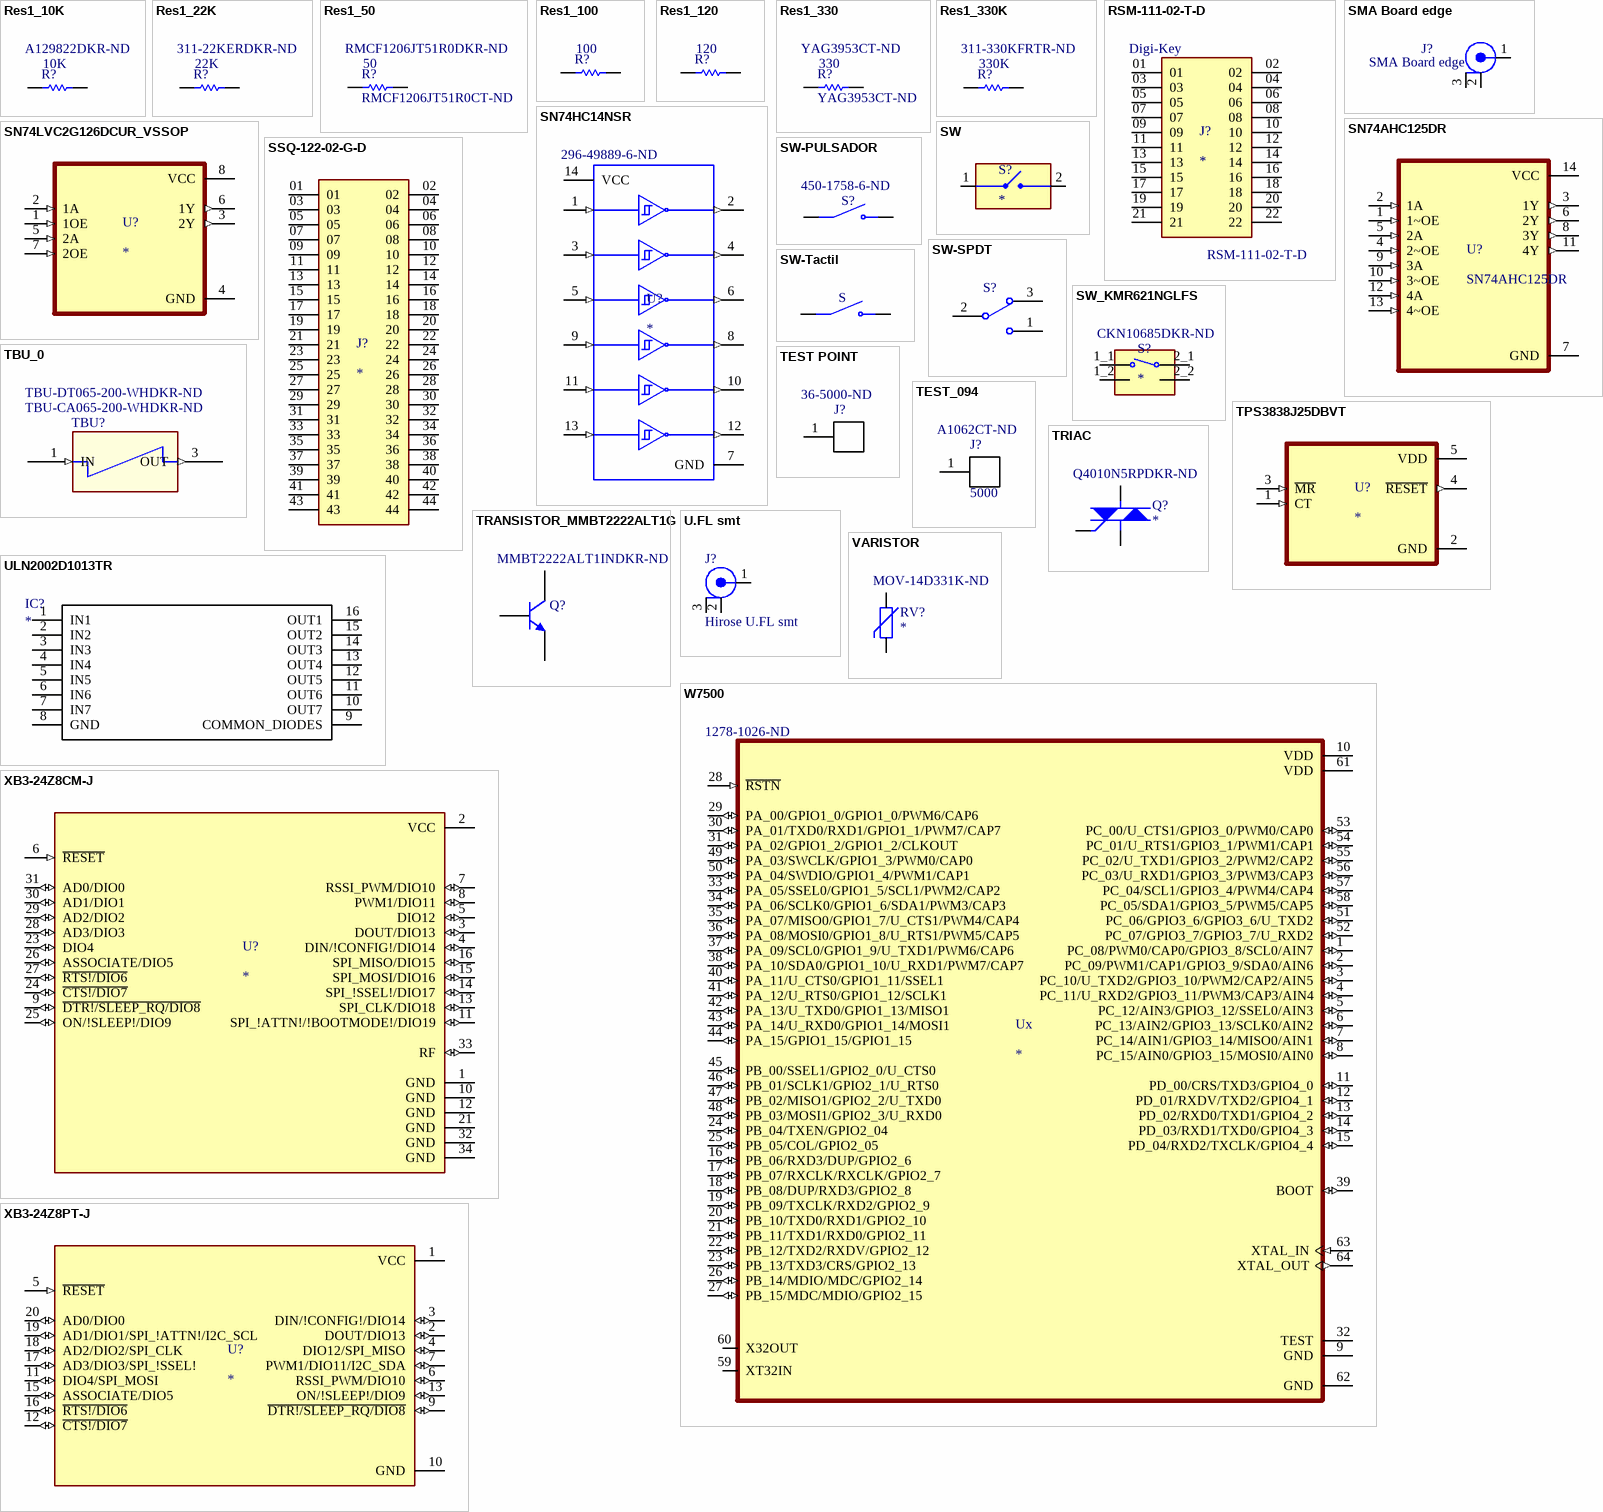
[diagram p7: symbols Res1_10K to XB3-24Z8PT-J]

## Res1_10K
designator R?, comment value 10K  Supplier Part Number 1: A129822DKR-ND  (hidden comment: A129822CT-ND)
10 kOhms ±1% 0.25W, 1/4W Resistencia en microprocesador 1206 (3216 métrico) AEC-Q200 automotriz, resistente a la humedad Película gruesa; Manufacturer: Panasonic; Manufacturer Part Number: ERJ-8ENF5232V; Resistance: 52.3kR; Power Rating: 250mW; Voltage Rating: 200V; Temperature Coefficient: 100ppm/°C; Published: 8-Jun-2000; LatestRevisionDate: 17-Jul-2002; LatestRevisionNote: Re-released for DXP Platform.; PackageReference: AXIAL-0.3; Publisher: Altium Limited; PackageDescription: Axial Device, Thru-Hole; 2 Leads; 0.3 in Pin Spacing; Mount: Surface Mount; Case/Package: 1206; Case Code (Imperial): 1206; Case Code (Metric): 3216; Contact Plating: Tin; Min Operating Temperature: -55°C; Max Operating Temperature: 155°C; Tolerance: 1%; Packaging: Tape and Reel; Package Quantity: 1; Composition: Thick Film; Number of Terminations: 2; Max Power Dissipation: 250mW; Voltage Rating (DC): 200V; Features: Automotive AEC-Q200; Military Standard: Not; Termination: SMD/SMT; Length: 3.2mm; Height: 0.028inch; Width: 1.6mm; Depth: 1.6mm; REACH SVHC: Yes; ComponentLink1URL: http://www.farnell.com/datasheets/1678782.pdf?src-supplier=Farnell; ComponentLink1Description: http://www.farnell.com/datasheets/1678782.pdf?src-supplier=Farnell; ComponentLink2URL: http://industrial.panasonic.com/www-data/pdf/AOA0000/AOA0000CE2.pdf?src-supplier=Mouser; ComponentLink2Description: http://industrial.panasonic.com/www-data/pdf/AOA0000/AOA0000CE2.pdf?src-supplier=Mouser; Supplier 1: Digi-Key; Link: https://www.digikey.com/es/products/detail/CRGCQ1206F10K/A129822DKR-ND/8578884?utm_campaign=buynow&utm_medium=aggregator&curr=usd&utm_source=octopart; Digi_Key_Part_Number: A129822CT-ND; ComponentLink3Description: RES 10K OHM 1% 1/4W 1206; ComponentLink3URL: https://www.digikey.com/es/products/detail/te-connectivity-passive-product/CRGCQ1206F10K/8576424?s=N4IgTCBcDaIIIEYwE4AcYwGEAqBaAcgCIgC6AvkA
footprint RES1206
pins: 1, 2

## Res1_22K
designator R?, comment value 22K  Supplier Part Number 1: 311-22KERDKR-ND  (hidden comment: 311-1.00KFRCT-ND)
RES 22K OHM 5% 1/4W 1206; Manufacturer: Panasonic; Manufacturer Part Number: ERJ-8ENF5232V; Digi_Key_Part_Number: 311-22KERCT-ND; Resistance: 52.3kR; Tolerance: 1%; Power Rating: 250mW; Voltage Rating: 200V; Temperature Coefficient: 100ppm/°C; Published: 8-Jun-2000; LatestRevisionDate: 17-Jul-2002; LatestRevisionNote: Re-released for DXP Platform.; PackageReference: AXIAL-0.3; Publisher: Altium Limited; PackageDescription: Axial Device, Thru-Hole; 2 Leads; 0.3 in Pin Spacing; Mount: Surface Mount; Case/Package: 1206; Case Code (Imperial): 1206; Case Code (Metric): 3216; Contact Plating: Tin; Min Operating Temperature: -55°C; Max Operating Temperature: 155°C; Packaging: Tape and Reel; Package Quantity: 1; Composition: Thick Film; Number of Terminations: 2; Max Power Dissipation: 250mW; Voltage Rating (DC): 200V; Features: Automotive AEC-Q200; Military Standard: Not; Termination: SMD/SMT; Length: 3.2mm; Height: 0.028inch; Width: 1.6mm; Depth: 1.6mm; REACH SVHC: Yes; ComponentLink1URL: http://www.farnell.com/datasheets/1678782.pdf?src-supplier=Farnell; ComponentLink1Description: http://www.farnell.com/datasheets/1678782.pdf?src-supplier=Farnell; ComponentLink2URL: http://industrial.panasonic.com/www-data/pdf/AOA0000/AOA0000CE2.pdf?src-supplier=Mouser; ComponentLink2Description: http://industrial.panasonic.com/www-data/pdf/AOA0000/AOA0000CE2.pdf?src-supplier=Mouser; Supplier 1: Digi-Key; Link: https://www.digikey.com/es/products/detail/RC1206JR-0722KL/311-22KERDKR-ND/735148?utm_campaign=buynow&utm_medium=aggregator&curr=usd&utm_source=octopart
footprint RES1206
pins: 1, 2

## Res1_50
designator R?, comment RMCF1206JT51R0CT-ND  value 50  Supplier Part Number 1: RMCF1206JT51R0DKR-ND
51 Ohms ±5% 0.25W, 1/4W Resistencia en microprocesador 1206 (3216 métrico) AEC-Q200 automotriz Película gruesa; Manufacturer: Panasonic; Manufacturer Part Number: ERJ-8ENF5232V; Resistance: 52.3kR; Tolerance: 1%; Power Rating: 250mW; Voltage Rating: 200V; Temperature Coefficient: 100ppm/°C; Published: 8-Jun-2000; LatestRevisionDate: 17-Jul-2002; LatestRevisionNote: Re-released for DXP Platform.; PackageReference: AXIAL-0.3; Publisher: Altium Limited; PackageDescription: Axial Device, Thru-Hole; 2 Leads; 0.3 in Pin Spacing; Mount: Surface Mount; Case/Package: 1206; Case Code (Imperial): 1206; Case Code (Metric): 3216; Contact Plating: Tin; Min Operating Temperature: -55°C; Max Operating Temperature: 155°C; Packaging: Tape and Reel; Package Quantity: 1; Composition: Thick Film; Number of Terminations: 2; Max Power Dissipation: 250mW; Voltage Rating (DC): 200V; Features: Automotive AEC-Q200; Military Standard: Not; Termination: SMD/SMT; Length: 3.2mm; Height: 0.028inch; Width: 1.6mm; Depth: 1.6mm; REACH SVHC: Yes; ComponentLink1URL: http://www.farnell.com/datasheets/1678782.pdf?src-supplier=Farnell; ComponentLink1Description: http://www.farnell.com/datasheets/1678782.pdf?src-supplier=Farnell; ComponentLink2URL: http://industrial.panasonic.com/www-data/pdf/AOA0000/AOA0000CE2.pdf?src-supplier=Mouser; ComponentLink2Description: http://industrial.panasonic.com/www-data/pdf/AOA0000/AOA0000CE2.pdf?src-supplier=Mouser; Supplier 1: Digi-Key; Link: https://www.digikey.com/es/products/detail/RMCF1206JT51R0/RMCF1206JT51R0DKR-ND/1943667?utm_campaign=buynow&utm_medium=aggregator&curr=usd&utm_source=octopart; Digi_Key_Part_Number: RMCF1206JT51R0CT-ND; ComponentLink3Description: RES 51 OHM 5% 1/4W 1206; ComponentLink3URL: https://www.digikey.com/es/products/detail/stackpole-electronics-inc/RMCF1206JT51R0/1753854?s=N4IgTCBcDaIEoFkDCAxAjGADANgFIBUBWNOTJfAWgDkAREAXQF8g
footprint RES1206
pins: 1, 2

## Res1_100
designator R?, comment value 100  (hidden comment: 2019-RK73H2BTTD1000FCT-ND)
100 Ohms ±1% 0.25W, 1/4W Resistencia en microprocesador 1206 (3216 métrico) AEC-Q200 automotriz, resistente a la humedad Película gruesa; Manufacturer: Panasonic; Manufacturer Part Number: ERJ-8ENF5232V; Resistance: 52.3kR; Power Rating: 250mW; Voltage Rating: 200V; Temperature Coefficient: 100ppm/°C; Published: 8-Jun-2000; LatestRevisionDate: 17-Jul-2002; LatestRevisionNote: Re-released for DXP Platform.; PackageReference: AXIAL-0.3; Publisher: Altium Limited; PackageDescription: Axial Device, Thru-Hole; 2 Leads; 0.3 in Pin Spacing; Mount: Surface Mount; Case/Package: 1206; Case Code (Imperial): 1206; Case Code (Metric): 3216; Contact Plating: Tin; Min Operating Temperature: -55°C; Max Operating Temperature: 155°C; Tolerance: 1%; Packaging: Tape and Reel; Package Quantity: 1; Composition: Thick Film; Number of Terminations: 2; Max Power Dissipation: 250mW; Voltage Rating (DC): 200V; Features: Automotive AEC-Q200; Military Standard: Not; Termination: SMD/SMT; Length: 3.2mm; Height: 0.028inch; Width: 1.6mm; Depth: 1.6mm; REACH SVHC: Yes; ComponentLink1URL: http://www.farnell.com/datasheets/1678782.pdf?src-supplier=Farnell; ComponentLink1Description: http://www.farnell.com/datasheets/1678782.pdf?src-supplier=Farnell; ComponentLink2URL: http://industrial.panasonic.com/www-data/pdf/AOA0000/AOA0000CE2.pdf?src-supplier=Mouser; ComponentLink2Description: http://industrial.panasonic.com/www-data/pdf/AOA0000/AOA0000CE2.pdf?src-supplier=Mouser; Digi_Key_Part_Number: 2019-RK73H2BTTD1000FCT-ND; Link: https://www.digikey.com/es/products/detail/koa-speer-electronics-inc/RK73H2BTTD1000F/10235871; ComponentLink3Description: RES 100 OHM 1% 1/4W 1206; ComponentLink3URL: https://www.digikey.com/es/products/detail/koa-speer-electronics-inc/RK73H2BTTD1000F/10235871?s=N4IgTCBcDa4AwEYCcBaASgaQOwGYASYAQgCrEAiCcVAYgMLEoByZIAugL5A
footprint RES1206
pins: 1, 2

## Res1_120
designator R?, comment value 120  (hidden comment: 311-120ERCT-ND)
120 Ohms ±5% 0.25W, 1/4W Resistencia en microprocesador 1206 (3216 métrico) Resistente a la humedad Película gruesa; Manufacturer: Panasonic; Manufacturer Part Number: ERJ-8ENF5232V; Resistance: 52.3kR; Tolerance: 1%; Power Rating: 250mW; Voltage Rating: 200V; Temperature Coefficient: 100ppm/°C; Published: 8-Jun-2000; LatestRevisionDate: 17-Jul-2002; LatestRevisionNote: Re-released for DXP Platform.; PackageReference: AXIAL-0.3; Publisher: Altium Limited; PackageDescription: Axial Device, Thru-Hole; 2 Leads; 0.3 in Pin Spacing; Mount: Surface Mount; Case/Package: 1206; Case Code (Imperial): 1206; Case Code (Metric): 3216; Contact Plating: Tin; Min Operating Temperature: -55°C; Max Operating Temperature: 155°C; Packaging: Tape and Reel; Package Quantity: 1; Composition: Thick Film; Number of Terminations: 2; Max Power Dissipation: 250mW; Voltage Rating (DC): 200V; Features: Automotive AEC-Q200; Military Standard: Not; Termination: SMD/SMT; Length: 3.2mm; Height: 0.028inch; Width: 1.6mm; Depth: 1.6mm; REACH SVHC: Yes; ComponentLink1URL: http://www.farnell.com/datasheets/1678782.pdf?src-supplier=Farnell; ComponentLink1Description: http://www.farnell.com/datasheets/1678782.pdf?src-supplier=Farnell; ComponentLink2URL: http://industrial.panasonic.com/www-data/pdf/AOA0000/AOA0000CE2.pdf?src-supplier=Mouser; ComponentLink2Description: http://industrial.panasonic.com/www-data/pdf/AOA0000/AOA0000CE2.pdf?src-supplier=Mouser; Link: https://www.digikey.com/es/products/detail/yageo/RC1206JR-07120RL/729215; Digi_Key_Part_Number: 311-120ERCT-ND; ComponentLink3Description: RES 120 OHM 5% 1/4W 1206; ComponentLink3URL: https://www.digikey.com/es/products/detail/yageo/RC1206JR-07120RL/729215?s=N4IgTCBcDaIMwEYEFoFgAwFEBKBhAKsgHIAiIAugL5A
footprint RES1206
pins: 1, 2

## Res1_330
designator R?, comment YAG3953CT-ND  value 330
330 Ohms ±5% 0.25W, 1/4W Resistencia en microprocesador 1206 (3216 métrico) AEC-Q200 automotriz, resistente a la humedad Película gruesa; Manufacturer: Panasonic; Manufacturer Part Number: ERJ-8ENF5232V; Resistance: 52.3kR; Tolerance: 1%; Power Rating: 250mW; Voltage Rating: 200V; Temperature Coefficient: 100ppm/°C; Published: 8-Jun-2000; LatestRevisionDate: 17-Jul-2002; LatestRevisionNote: Re-released for DXP Platform.; PackageReference: AXIAL-0.3; Publisher: Altium Limited; PackageDescription: Axial Device, Thru-Hole; 2 Leads; 0.3 in Pin Spacing; Mount: Surface Mount; Case/Package: 1206; Case Code (Imperial): 1206; Case Code (Metric): 3216; Contact Plating: Tin; Min Operating Temperature: -55°C; Max Operating Temperature: 155°C; Packaging: Tape and Reel; Package Quantity: 1; Composition: Thick Film; Number of Terminations: 2; Max Power Dissipation: 250mW; Voltage Rating (DC): 200V; Features: Automotive AEC-Q200; Military Standard: Not; Termination: SMD/SMT; Length: 3.2mm; Height: 0.028inch; Width: 1.6mm; Depth: 1.6mm; REACH SVHC: Yes; ComponentLink1URL: http://www.farnell.com/datasheets/1678782.pdf?src-supplier=Farnell; ComponentLink1Description: http://www.farnell.com/datasheets/1678782.pdf?src-supplier=Farnell; ComponentLink2URL: http://industrial.panasonic.com/www-data/pdf/AOA0000/AOA0000CE2.pdf?src-supplier=Mouser; ComponentLink2Description: http://industrial.panasonic.com/www-data/pdf/AOA0000/AOA0000CE2.pdf?src-supplier=Mouser; Supplier 1: Digi-Key; Digi_Key_Part_Number: YAG3953CT-ND; Link: https://www.digikey.com/es/products/detail/AC1206JR-07330RL/YAG3953CT-ND/6006802?utm_campaign=buynow&utm_medium=aggregator&curr=usd&utm_source=octopart; ComponentLink3Description: RES SMD 330 OHM 5% 1/4W 1206; ComponentLink3URL: https://www.digikey.com/es/products/detail/yageo/AC1206JR-07330RL/5897835?s=N4IgTCBcDaIJoEEDiBmAnAVhQYQCoFoA5AERAF0BfIA; Supplier Part Number 1: YAG3953CT-ND
footprint RES1206
pins: 1, 2

## Res1_330K
designator R?, comment value 330K  Supplier Part Number 1: 311-330KFRTR-ND  (hidden comment: 311-1.00KFRCT-ND)
RES 330K OHM 1% 1/4W 1206; Manufacturer: Panasonic; Manufacturer Part Number: ERJ-8ENF5232V; Digi_Key_Part_Number: 311-330KFRCT-ND; Resistance: 52.3kR; Power Rating: 250mW; Voltage Rating: 200V; Temperature Coefficient: 100ppm/°C; Published: 8-Jun-2000; LatestRevisionDate: 17-Jul-2002; LatestRevisionNote: Re-released for DXP Platform.; PackageReference: AXIAL-0.3; Publisher: Altium Limited; PackageDescription: Axial Device, Thru-Hole; 2 Leads; 0.3 in Pin Spacing; Mount: Surface Mount; Case/Package: 1206; Case Code (Imperial): 1206; Case Code (Metric): 3216; Contact Plating: Tin; Min Operating Temperature: -55°C; Max Operating Temperature: 155°C; Tolerance: 1%; Packaging: Tape and Reel; Package Quantity: 1; Composition: Thick Film; Number of Terminations: 2; Max Power Dissipation: 250mW; Voltage Rating (DC): 200V; Features: Automotive AEC-Q200; Military Standard: Not; Termination: SMD/SMT; Length: 3.2mm; Height: 0.028inch; Width: 1.6mm; Depth: 1.6mm; REACH SVHC: Yes; ComponentLink1URL: http://www.farnell.com/datasheets/1678782.pdf?src-supplier=Farnell; ComponentLink1Description: http://www.farnell.com/datasheets/1678782.pdf?src-supplier=Farnell; ComponentLink2URL: http://industrial.panasonic.com/www-data/pdf/AOA0000/AOA0000CE2.pdf?src-supplier=Mouser; ComponentLink2Description: http://industrial.panasonic.com/www-data/pdf/AOA0000/AOA0000CE2.pdf?src-supplier=Mouser; Supplier 1: Digi-Key; Link: https://www.digikey.com/es/products/detail/RC1206FR-07330KL/311-330KFRTR-ND/728823?utm_campaign=buynow&utm_medium=aggregator&curr=usd&utm_source=octopart
footprint RES1206
pins: 1, 2

## RSM-111-02-T-D
designator J?  MP: RSM-111-02-T-D  Supplier 1: Digi-Key
Availability: Unavailable; Price: None; Package: None; Value: *; Supplier Part Number 1: 609-3773-ND
footprint SAMTEC_RSM-111-02-T-D
pins: 01, 02, 03, 04, 05, 06, 07, 08, 09, 10, 11, 12, 13, 14, 15, 16, 17, 18, 19, 20, 21, 22

## SMA Board edge
designator J?
SMA Conector Jack, enchufe hembra 50Ohm Extremo de placa, lanzamiento de extremo (End Launch), montaje de panel Soldadura; Digi_Key_Part_Number: WM9461-ND; Supplier 1: Digi-Key; Supplier Part Number 1: WM9461-ND; Link: https://www.digikey.com/es/products/detail/0732511290/WM9461-ND/3878247?utm_campaign=buynow&utm_medium=aggregator&curr=usd&utm_source=octopart; ComponentLink1Description: CONN SMA JACK STR 50OHM EDGE MNT; ComponentLink1URL: https://www.digikey.com/es/products/detail/0732511290/WM9461-ND/3878247?utm_campaign=buynow&utm_medium=aggregator&curr=usd&utm_source=octopart
footprint SMA_Board Edge
pins: 1 CENTER, 2 SHIELD, 3 SHIELD1

## SN74AHC125DR
designator U?
Buffer, Non-Inverting 4 Element 1 Bit per Element 3-State Output 14-SOIC; MF: Texas Instruments; Check_prices: https://www.snapeda.com/parts/SN74AHC125DR/Texas+Instruments/view-part/?ref=eda; Value: SN74AHC125DR; Availability: In Stock; Price: None; SnapEDA_Link: https://www.snapeda.com/parts/SN74AHC125DR/Texas+Instruments/view-part/?ref=snap; Package: SOIC-14 Texas Instruments; MP: SN74AHC125DR; Purchase-URL: https://pricing.snapeda.com/search/part/SN74AHC125DR/?ref=eda; ComponentLink1Description: SN74AHC125DR; ComponentLink1URL: https://www.digikey.com/en/products/detail/texas-instruments/SN74AHC125DR/376299; Link: https://www.digikey.com/en/products/detail/texas-instruments/SN74AHC125DR/376299; Digi-Key_Part_Number: 296-4530-1-ND
footprint SOIC127P600X175-14N
pins: 1 1~OE (in), 2 1A (in), 3 1Y (out), 4 2~OE (in), 5 2A (in), 6 2Y (out), 7 GND (power), 8 3Y (out), 9 3A (in), 10 3~OE (in), 11 4Y (out), 12 4A (in), 13 4~OE (in), 14 VCC (power)

## SN74HC14NSR
designator U?  Supplier Part Number 1: 296-49889-6-ND
MP: SN74HC14NSR; Price: None; Package: None; Availability: Unavailable; Value: *; ComponentLink1Description: SN74HC14QDRG4Q1; ComponentLink1URL: https://www.digikey.com/es/products/detail/texas-instruments/SN74HC14QDRG4Q1/1902723; Supplier 1: Digi-Key
footprint SOIC-14_NB-M
pins: 1 1A (in), 2 1Y (out), 3 2A (in), 4 2Y (out), 5 3A (in), 6 3Y (out), 7 GND (power), 8 4Y (out), 9 4A (in), 10 5Y (out), 11 5A (in), 12 6Y (out), 13 6A (in), 14 VCC (power)

## SN74LVC2G126DCUR_VSSOP
designator U?
Dual Bus Buffer Gate With 3-State Outputs 8-VSSOP -40 to 125; MP: SN74LVC2G126DCUR; MF: Texas Instruments; Check_prices: https://www.snapeda.com/parts/SN74LVC2G126DCUR/Texas%20Instruments/view-part/401295/?ref=eda; Price: None; SnapEDA_Link: https://www.snapeda.com/parts/SN74LVC2G126DCUR/Texas%20Instruments/view-part/401295/?ref=snap; Availability: Good; Value: *; Purchase-URL: https://pricing.snapeda.com/search/part/SN74LVC2G126DCUR/?ref=eda; Package: VSSOP-8 Texas Instruments; ComponentLink1Description: SN74LVC2G126DCUR; ComponentLink1URL: https://www.digikey.com/es/products/detail/texas-instruments/SN74LVC2G126DCUR/441091; Link: https://www.digikey.com/es/products/detail/texas-instruments/SN74LVC2G126DCUR/441091; Digi-Key_Part_Number: 296-12555-1-ND
footprint SOP50P310X90-8N
pins: 1 1OE (in), 2 1A (in), 3 2Y (out), 4 GND (power), 5 2A (in), 6 1Y (out), 7 2OE (in), 8 VCC (power)

## SSQ-122-02-G-D
designator J?
Conector de receptÃ¡culo de 44 posiciones 0,100 (2,54 mm) Orificio pasante Dorado; MP: SSQ-122-02-G-D-LL; MF: Samtec; Price: None; Purchase-URL: https://pricing.snapeda.com/search/part/SSQ-122-02-G-D-LL/?ref=eda; Package: None; Check_prices: https://www.snapeda.com/parts/SSQ-122-02-G-D-LL/Samtec/view-part/?ref=eda; Value: *; Availability: In Stock; SnapEDA_Link: https://www.snapeda.com/parts/SSQ-122-02-G-D-LL/Samtec/view-part/?ref=snap
footprint SAMTEC_SSQ-122-02-G-D
pins: 01, 02, 03, 04, 05, 06, 07, 08, 09, 10, 11, 12, 13, 14, 15, 16, 17, 18, 19, 20, 21, 22, 23, 24, 25, 26, 27, 28, 29, 30, 31, 32, 33, 34, 35, 36, 37, 38, 39, 40, 41, 42, 43, 44

## SW
designator S?, comment 1437566-4  (value not drawn)
Tactile Switch SPST-NO Top Actuated Surface Mount; MF: TE Connectivity; Check_prices: https://www.snapeda.com/parts/1437566-4/TE+Connectivity+ALCOSWITCH+Switches/view-part/?ref=eda; Package: None; MP: 1437566-4; Value: *; SnapEDA_Link: https://www.snapeda.com/parts/1437566-4/TE+Connectivity+ALCOSWITCH+Switches/view-part/?ref=snap; Comment_1: *
footprint SW_1437566-4
pins: 1, 2

## SW-PULSADOR
designator S?, comment Supplier Part Number 1: 450-1758-6-ND  (hidden comment: 450-1758-1-ND)
Interruptores táctiles SPST-NO (Normalmente abierto) Activación superior Montaje en superficie; MF: TE Connectivity; MP: 5-1437565-0; Price: None; TE_purchase_URL: https://www.te.com/usa-en/product-5-1437565-0.html?te_bu=Cor&te_type=disp&te_campaign=seda_glo_cor-seda-global-disp-prtnr-fy19-seda-model-bom-cta_sma-317_1&elqCampaignId=32493; Value: *; Package: None; EU_RoHS_Compliance: Compliant; Availability: Unavailable; SnapEDA_Link: https://www.snapeda.com/parts/5-1437565-0/TE%20Connectivity%20ALCOSWITCH%20Switches/view-part/227152/?ref=snap; Comment_1: *; Supplier 1: Digi-Key
footprint pulsador_IT-1101NHA
pins: 1 COM, 2 NO

## SW-SPDT
designator S?
SPDT Subminiature Toggle Switch, Right Angle Mounting, Vertical Actuation; Published: 24-Mar-1999; LatestRevisionDate: 17-Dec-2003; LatestRevisionNote: Schematic revised, PCB Footprint replaced.; DatasheetVersion: 05-Dec-2000; PackageReference: TL36WW15050; Publisher: Altium Limited; PackageDescription: Switch; 4 Leads; ComponentLink1Description: Manufacturer Link; ComponentLink1URL: http://www.apem.com
footprint sw1206
pins: 1, 2, 3

## SW-Tactil
designator S, comment sw-tactil  (value not drawn)
Tactile Switch SPST-NO Top Actuated Surface Mount; MF: TE Connectivity; MP: 5-1437565-0; Price: None; TE_purchase_URL: https://www.te.com/usa-en/product-5-1437565-0.html?te_bu=Cor&te_type=disp&te_campaign=seda_glo_cor-seda-global-disp-prtnr-fy19-seda-model-bom-cta_sma-317_1&elqCampaignId=32493; Value: *; Package: None; EU_RoHS_Compliance: Compliant; Availability: Unavailable; SnapEDA_Link: https://www.snapeda.com/parts/5-1437565-0/TE%20Connectivity%20ALCOSWITCH%20Switches/view-part/227152/?ref=snap; Comment_1: *
footprint SW_TACTIL
pins: 1 COM, 2 COM, 3 NO, 4 NO

## SW_KMR621NGLFS
designator S?  Supplier Part Number 1: CKN10685DKR-ND
Interruptores táctiles SPST-NO (Normalmente abierto) Activación superior Montaje en superficie; Digi_Key_Part_Number: CKN10685CT-ND; MF: C&K; Value: KMR631NG ULC LFS; MP: KMR621NG LFS; Package: None; Price: None; SnapEDA_Link: https://www.snapeda.com/parts/KMR621NG%20LFS/C%26K/view-part/2720743/?ref=snap; Availability: Unavailable; Supplier 1: Digi-Key; Link: https://www.digikey.com/es/products/detail/KMR631NG%2520ULC%2520LFS/CKN10685DKR-ND/6035369?utm_campaign=buynow&utm_medium=aggregator&curr=usd&utm_source=octopart; ComponentLink1Description: SWITCH TACTILE SPST-NO 50MA 32V; ComponentLink1URL: https://www.digikey.com/es/products/detail/KMR631NG%2520ULC%2520LFS/CKN10685DKR-ND/6035369?utm_campaign=buynow&utm_medium=aggregator&curr=usd&utm_source=octopart
footprint SW_KMR621NGLFS
pins: 1_1 1, 1_2 1, 2_1 2, 2_2 2

## TBU_0
designator TBU?, comment Supplier Part Number 1: TBU-CA065-200-WHDKR-ND  Supplier Part Number 2: TBU-DT065-200-WHDKR-ND  (hidden comment: TBU-DT065-200-WHCT-ND)
SURGE SUPP TBU 200MA 650VIMP SMD; Supplier 1: Digi-Key; Supplier 2: Digi-Key; ComponentLink1Description: SURGE SUPP TBU DL 200MA 650VIMP; ComponentLink1URL: https://www.digikey.com/es/products/detail/bourns-inc/TBU-DT065-200-WH/2504935?s=N4IgTCBcDaICoCECqBaAInADANgKwrE0xQHUAJAYThQDk0QBdAXyA; Link: https://www.digikey.com/es/products/detail/bourns-inc/TBU-DT065-200-WH/2504935?s=N4IgTCBcDaICoCECqBaAInADANgKwrE0xQHUAJAYThQDk0QBdAXyA; Digi-Key_Part_Number: TBU-DT065-200-WHCT-ND
footprint DIOC650X400X100N
pins: 1 IN (in), 3 OUT (out)